# Altium footprint library patricklib.PcbLib: 39 footprints (part 1 of 3)
Each footprint in its own frame and in the unit in brackets; x right, y up, seen from the top. Pads: shape width x height; smd on the part's side, far side on the other; paste and mask are expansions set on the pad; w line width, h text height; cw(c..) or ccw(c..) is an arc to the next point about the centre after c.
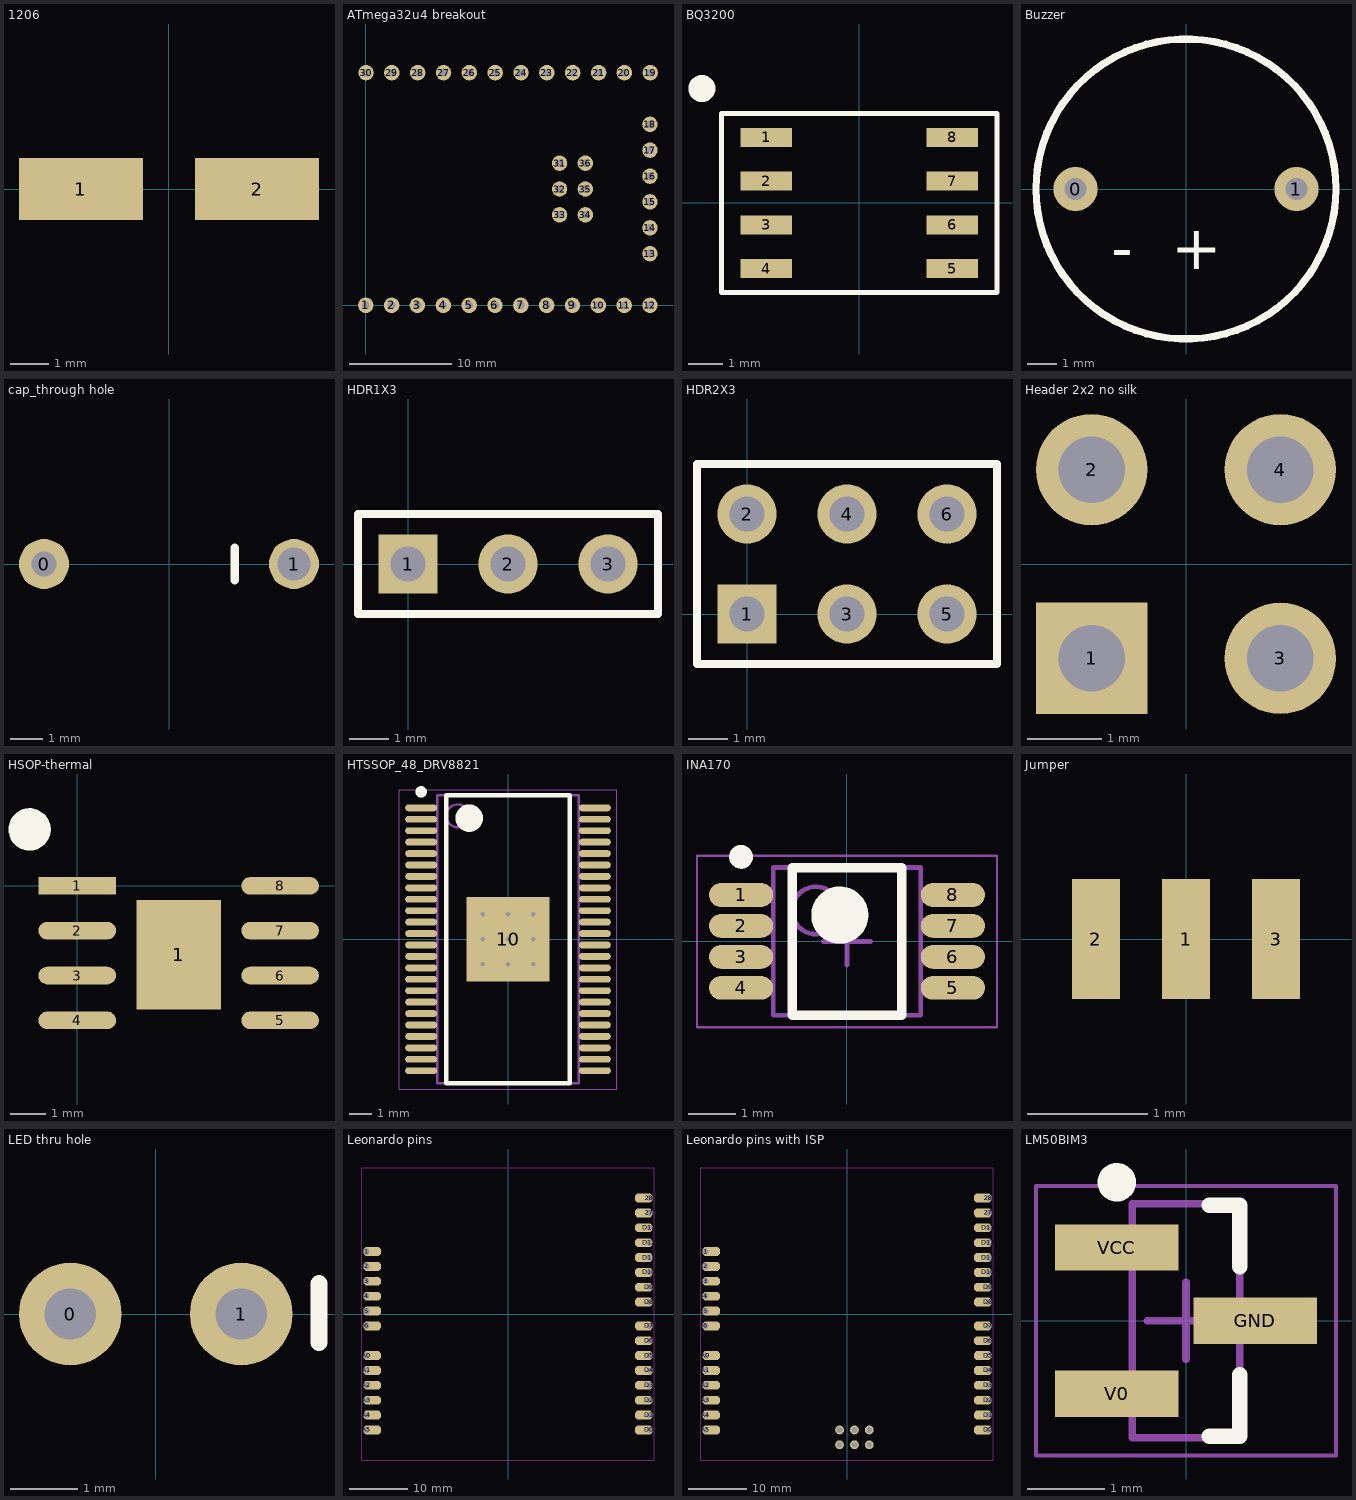
[diagram p0: the footprints below, top view; thin cyan lines are the x and y axes]

## 1206 [mm]
pads (2):
  rect 3.2x1.6 smd: 1(-2.275,0) 2(2.275,0)

## ATmega32u4 breakout [mil]
pads (36):
  round 60 hole 30: 1(0,0) 2(100,0) 3(200,0) 4(300,0) 5(400,0) 6(500,0) 7(600,0) 8(700,0) 9(800,0) 10(900,0) 11(1000,0) 12(1100,0) 13(1100,200) 14(1100,300) 15(1100,400) 16(1100,500) 17(1100,600) 18(1100,700) 19(1100.98,900) 20(1000.98,900) 21(900.98,900) 22(800.98,900) 23(700.98,900) 24(600.98,900) 25(500.98,900) 26(400.98,900) 27(300.98,900) 28(200.98,900) 29(100.98,900) 30(0.98,900) 31(750,550) 32(750,450) 33(750,350) 34(850,350) 35(850,450) 36(850,550)

## BQ3200 [mm]
pads (8):
  rect 1.5x0.55 smd: 1(-2.7,1.905) 2(-2.7,0.635) 3(-2.7,-0.635) 4(-2.7,-1.905) 5(2.7,-1.905) 6(2.7,-0.635) 7(2.7,0.635) 8(2.7,1.905)
Top Overlay:
  circle w0.5: c-4.575,3.325 r0.141
  lines w0.15: -4,-2.6 -4,2.6 4,2.6 4,-2.6 -4,-2.6

## Buzzer [mil]
pads (2):
  round 60 hole 30: 0(-150,0) 1(150,0)
Top Overlay:
  circle w10: c0,0 r203.67
  text "-  +" at -101.38,-109.25 h60

## cap_through hole [mil]
pads (2):
  round 60 hole 30: 0(-150,0)
  round 60 hole 39.37: 1(150,0)
Top Overlay:
  lines w10: 78.74,-19.68 78.74,19.68

## HDR1X3 [mm] "Connector; Header; 3 Position"
pads (3):
  rect 1.5x1.5 hole 0.9: 1(0,0)
  round 1.5 hole 0.9: 2(2.54,0) 3(5.08,0)
Top Overlay:
  lines w0.2: -1.27,-1.27 6.35,-1.27 6.35,1.27 -1.27,1.27 -1.27,-1.27

## HDR2X3 [mm] "Connector; Header; 3x2 Position"
pads (6):
  rect 1.5x1.5 hole 0.9: 1(0,0)
  round 1.5 hole 0.9: 2(0,2.54) 3(2.54,0) 4(2.54,2.54) 5(5.08,0) 6(5.08,2.54)
Top Overlay:
  lines w0.2: 1.482,-1.27 6.35,-1.27 ; 6.35,-1.27 -1.27,-1.27 -1.27,3.81 6.35,3.81 6.35,-1.27

## Header 2x2 no silk [mm]
pads (4):
  rect 1.5x1.5 hole 0.9: 1(-1.27,-1.27)
  round 1.5 hole 0.9: 2(-1.27,1.27) 3(1.27,-1.27) 4(1.27,1.27)

## HSOP-thermal [mm]
pads (9):
  rect 2.2x0.5 smd: 1(0,0)
  rect 2.4x3.1 smd: 1(2.875,-1.95)
  oval 2.2x0.5 smd: 2(0,-1.27) 3(0,-2.54) 4(0,-3.81) 5(5.75,-3.81) 6(5.75,-2.54) 7(5.75,-1.27) 8(5.75,0)
Top Overlay:
  circle w0.6: c-1.35,1.6 r0.3

## HTSSOP_48_DRV8821 [mm] "TSSOP, 48-Leads, Body 12.50x6.10mm, Pitch 0.50mm, Thermal Pad 3.70x3.65mm, IPC Medium Density"
height 1.2
pads (49):
  oval 1.4x0.3 smd: 1(-3.8,-5.75) 1(-3.8,-5.25) 1(-3.8,5.25) 1(-3.8,5.75) 2(-3.8,4.75) 3(-3.8,4.25) 4(-3.8,3.75) 5(-3.8,3.25) 6(-3.8,2.75) 7(-3.8,2.25) 8(-3.8,1.75) 9(-3.8,-1.25) 9(-3.8,-0.75) 9(-3.8,-0.25) 9(-3.8,0.25) 9(-3.8,0.75) 9(-3.8,1.25) 9(3.8,-1.25) 9(3.8,-0.75) 9(3.8,-0.25) 9(3.8,0.25) 9(3.8,0.75) 9(3.8,1.25) 10(-3.8,-1.75) 11(-3.8,-2.25) 12(-3.8,-2.75) 13(-3.8,-3.25) 14(-3.8,-3.75) 15(-3.8,-4.25) 16(-3.8,-4.75) 17(3.8,-5.75) 18(3.8,-5.25) 19(3.8,-4.75) 20(3.8,-4.25) 21(3.8,-3.75) 22(3.8,-3.25) 23(3.8,-2.75) 24(3.8,-2.25) 25(3.8,-1.75) 26(3.8,1.75) 27(3.8,2.25) 28(3.8,2.75) 29(3.8,3.25) 30(3.8,3.75) 31(3.8,4.25) 32(3.8,4.75) 33(3.8,5.25) 34(3.8,5.75)
  rect 3.65x3.7 smd: 10(0,0)
via -1.1,1.1 diameter 0.5 hole 0.2
via 0,1.1 diameter 0.5 hole 0.2
via 1.1,1.1 diameter 0.5 hole 0.2
via -1.1,0 diameter 0.5 hole 0.2
via 0,0 diameter 0.5 hole 0.2
via 1.1,0 diameter 0.5 hole 0.2
via -1.1,-1.1 diameter 0.5 hole 0.2
via 0,-1.1 diameter 0.5 hole 0.2
via 1.1,-1.1 diameter 0.5 hole 0.2
Top Overlay:
  circle w0.25: c-3.8,6.45 r0.125
  circle w0.6: c-1.7,5.3 r0.3
  lines w0.2: -2.7,-6.3 -2.7,6.3 2.7,6.3 2.7,-6.3 -2.7,-6.3
Mechanical 13:
  circle w0.1: c-2.2,5.4 r0.5
  lines w0.1: -3.1,-6.3 -3.1,6.3 3.1,6.3 3.1,-6.3 -3.1,-6.3
Mechanical 15:
  lines w0.05: -4.75,-6.55 -4.75,6.55 4.75,6.55 4.75,-6.55 -4.75,-6.55
  lines w0.1: -0.5,0 0.5,0 ; 0,-0.5 0,0.5
3D body: height 1.2, standoff 0.05, extent -3.1,-6.3 3.1,6.3

## INA170 [mm] "TSOP, 8-Leads, Body 3.00x3.00mm, Pitch 0.65mm, IPC Medium Density"
height 1.1
pads (8):
  oval 1.35x0.5 smd: 1(-2.225,0.975) 2(-2.225,0.325) 3(-2.225,-0.325) 4(-2.225,-0.975) 5(2.225,-0.975) 6(2.225,-0.325) 7(2.225,0.325) 8(2.225,0.975)
Top Overlay:
  circle w0.6: c-0.15,0.55 r0.3
  circle w0.25: c-2.225,1.775 r0.125
  lines w0.2: -1.15,-1.55 1.15,-1.55 1.15,1.55 -1.15,1.55 -1.15,-1.55
Mechanical 13:
  circle w0.1: c-0.65,0.65 r0.5
  lines w0.1: -1.55,-1.55 1.55,-1.55 1.55,1.55 -1.55,1.55 -1.55,-1.55
Mechanical 15:
  lines w0.05: -3.15,-1.8 3.15,-1.8 3.15,1.8 -3.15,1.8 -3.15,-1.8
  lines w0.1: -0.5,0 0.5,0 ; 0,-0.5 0,0.5
3D body: height 1.1, standoff 0.05, extent -1.55,-1.55 1.55,1.55

## Jumper [mm]
pads (3):
  rect 0.4x1 smd: 1(0,0) 2(-0.75,0) 3(0.75,0)

## LED thru hole [mil]
pads (2):
  round 60 hole 30: 0(-50,0) 1(50,0)
Top Overlay:
  lines w10: 95.47,-16.73 95.47,17.72

## Leonardo pins [mm]
pads (28):
  oct 3x1.5 hole 1 copper offset 0.9,0: 1(-24.13,10.668) 2(-24.13,8.128) 3(-24.13,5.588) 4(-24.13,3.048) 5(-24.105,0.508) 6(-24.13,-2.032) A0(-24.13,-7.112) A1(-24.13,-9.652) A2(-24.13,-12.192) A3(-24.13,-14.732) A4(-24.13,-17.272) A5(-24.13,-19.812)
  oct 3x1.5 hole 1 copper offset -0.9,0: 27(24.13,17.272) 28(24.13,19.812) D0(24.13,-19.812) D1(24.13,-17.272) D2(24.13,-14.732) D3(24.13,-12.192) D4(24.13,-9.652) D5(24.13,-7.112) D6(24.13,-4.572) D7(24.13,-2.032) D8(24.13,2.032) D9(24.13,4.572) D10(24.13,7.112) D11(24.13,9.652) D12(24.13,12.192) D13(24.13,14.732)
Keep-Out Layer:
  lines w0.025: -25,-25 -25,25 25,25 25,-25 -25,-25

## Leonardo pins with ISP [mm]
pads (34):
  oct 3x1.5 hole 1 copper offset 0.9,0: 1(-24.13,10.668) 2(-24.13,8.128) 3(-24.13,5.588) 4(-24.13,3.048) 5(-24.105,0.508) 6(-24.13,-2.032) A0(-24.13,-7.112) A1(-24.13,-9.652) A2(-24.13,-12.192) A3(-24.13,-14.732) A4(-24.13,-17.272) A5(-24.13,-19.812)
  oct 3x1.5 hole 1 copper offset -0.9,0: 27(24.13,17.272) 28(24.13,19.812) D0(24.13,-19.812) D1(24.13,-17.272) D2(24.13,-14.732) D3(24.13,-12.192) D4(24.13,-9.652) D5(24.13,-7.112) D6(24.13,-4.572) D7(24.13,-2.032) D8(24.13,2.032) D9(24.13,4.572) D10(24.13,7.112) D11(24.13,9.652) D12(24.13,12.192) D13(24.13,14.732)
  round 1.5 hole 1: GND(-1.27,-22.352) MISO(3.81,-19.812) MOSI(1.27,-22.352) RESET(-1.27,-19.812) SCK(1.27,-19.812) VCC(3.81,-22.352)
Keep-Out Layer:
  lines w0.025: -25,-25 25,-25 25,25 -25,25 -25,-25

## LM50BIM3 [mm] "Temperature sensor"
height 1.12
pads (3):
  rect 1.6x0.6 smd: GND(0.9,0) V0(-0.9,-0.95) VCC(-0.9,0.95)
Top Overlay:
  circle w0.25: c-0.9,1.8 r0.125
  lines w0.2: 0.3,-1.5 0.7,-1.5 0.7,-0.7 ; 0.3,1.5 0.7,1.5 0.7,0.7
Mechanical 13:
  lines w0.1: -0.7,-1.52 -0.7,1.52 0.7,1.52 0.7,-1.52 -0.7,-1.52
Mechanical 15:
  lines w0.05: -1.95,-1.75 -1.95,1.75 1.95,1.75 1.95,-1.75 -1.95,-1.75
  lines w0.1: -0.5,0 0.5,0 ; 0,-0.5 0,0.5
3D body: height 1.12, standoff 0.01, extent -0.7,-1.52 0.7,1.52